# Altium footprint library Lib2408.PcbLib: 18 footprints (part 2 of 2)
Each footprint in its own frame and in the unit in brackets; x right, y up, seen from the top. Pads: shape width x height; smd on the part's side, far side on the other; paste and mask are expansions set on the pad; w line width, h text height; cw(c..) or ccw(c..) is an arc to the next point about the centre after c.
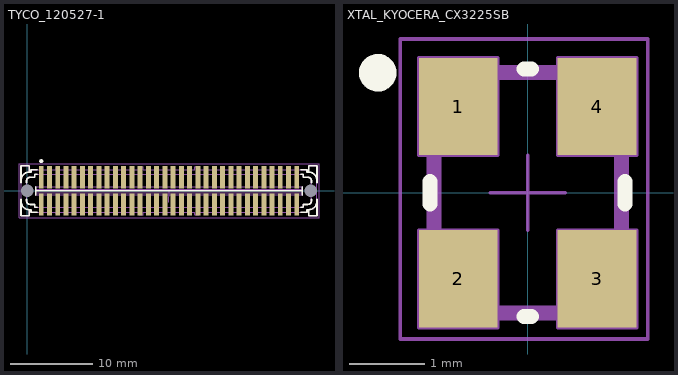
[diagram p1: the footprints below, top view; thin cyan lines are the x and y axes]

## TYCO_120527-1 [mm] "1mm Centerline, FH (IEEE 1386) Surface Mount, Stacking Board-to-Board Male Connectors"
height 8.45
pads (66):
  rect 0.6x2.7 smd: 1(1.7,1.65) 2(1.7,-1.65) 3(2.7,1.65) 4(2.7,-1.65) 5(3.7,1.65) 6(3.7,-1.65) 7(4.7,1.65) 8(4.7,-1.65) 9(5.7,1.65) 10(5.7,-1.65) 11(6.7,1.65) 12(6.7,-1.65) 13(7.7,1.65) 14(7.7,-1.65) 15(8.7,1.65) 16(8.7,-1.65) 17(9.7,1.65) 18(9.7,-1.65) 19(10.7,1.65) 20(10.7,-1.65) 21(11.7,1.65) 22(11.7,-1.65) 23(12.7,1.65) 24(12.7,-1.65) 25(13.7,1.65) 26(13.7,-1.65) 27(14.7,1.65) 28(14.7,-1.65) 29(15.7,1.65) 30(15.7,-1.65) 31(16.7,1.65) 32(16.7,-1.65) 33(17.7,1.65) 34(17.7,-1.65) 35(18.7,1.65) 36(18.7,-1.65) 37(19.7,1.65) 38(19.7,-1.65) 39(20.7,1.65) 40(20.7,-1.65) 41(21.7,1.65) 42(21.7,-1.65) 43(22.7,1.65) 44(22.7,-1.65) 45(23.7,1.65) 46(23.7,-1.65) 47(24.7,1.65) 48(24.7,-1.65) 49(25.7,1.65) 50(25.7,-1.65) 51(26.7,1.65) 52(26.7,-1.65) 53(27.7,1.65) 54(27.7,-1.65) 55(28.7,1.65) 56(28.7,-1.65) 57(29.7,1.65) 58(29.7,-1.65) 59(30.7,1.65) 60(30.7,-1.65) 61(31.7,1.65) 62(31.7,-1.65) 63(32.7,1.65) 64(32.7,-1.65)
  round 1 hole 1.5 unplated: 65(0,0) 66(34.4,0)
Top Overlay:
  circle w0.25: c1.7,3.6 r0.125
  lines w0.2: -0.75,-1.275 ccw(c0.25,-1.275) 0.25,-2.275 ; -0.75,-1 -0.75,-3.025 0.25,-3.025 0.25,-2.275 ; -0.75,1 -0.75,3.025 0.25,3.025 0.25,2.275 ; -0.75,1.275 cw(c0.25,1.275) 0.25,2.275 ; -0.09,-1 -0.09,-1.2 ccw(c0.36,-1.2) 0.36,-1.65 0.9,-1.65 0.9,-2 1.2,-2 ; -0.09,1 -0.09,1.2 cw(c0.36,1.2) 0.36,1.65 0.9,1.65 0.9,2 1.2,2 ; 1.05,-0.5 1.05,0.5 ; 1.05,0 33.35,0 ; 1.2,-2.575 0.45,-2.575 0.45,-2.275 0.25,-2.275 ; 1.2,2.575 0.45,2.575 0.45,2.275 0.25,2.275 ; 33.2,-2.575 33.95,-2.575 33.95,-2.275 34.15,-2.275 ; 33.2,-2 33.5,-2 33.5,-1.65 34.04,-1.65 ccw(c34.04,-1.2) 34.49,-1.2 34.49,-1 ; 33.2,2 33.5,2 33.5,1.65 34.04,1.65 cw(c34.04,1.2) 34.49,1.2 34.49,1 ; 33.2,2.575 33.95,2.575 33.95,2.275 34.15,2.275 ; 33.35,-0.5 33.35,0.5 ; 35.15,-1.275 cw(c34.15,-1.275) 34.15,-2.275 ; 35.15,-1 35.15,-3.025 34.15,-3.025 34.15,-2.275 ; 35.15,1 35.15,3.025 34.15,3.025 34.15,2.275 ; 35.15,1.275 ccw(c34.15,1.275) 34.15,2.275
Mechanical 14:
  drawing of 251 lines, arcs and shapes, not listed
Mechanical 15:
  lines w0.05: -1,-3.275 -1,3.275 35.4,3.275 35.4,-3.275 -1,-3.275
3D body "TYCO-AMP_120527-1.stp": height 8.38, standoff -0.73, extent -0.75,-3.025 35.15,3.025

## XTAL_KYOCERA_CX3225SB [mm] "SMD Crystal Kyocera, 4 Pin, 3.2mm L X 2.5mm W X 0.6mm H"
height 0.6
pads (4):
  rect 1.05x1.3 smd: 1(-0.925,1.15) 2(-0.925,-1.15) 3(0.925,-1.15) 4(0.925,1.15)
Top Overlay:
  circle w0.25: c-2,1.6 r0.125
  lines w0.2: -1.3,-0.15 -1.3,0.15 ; -0.05,-1.65 0.05,-1.65 ; -0.05,1.65 0.05,1.65 ; 1.3,-0.15 1.3,0.15
Mechanical 8:
  lines w0.05: -1.425,-1.15 -0.925,-1.15 ; -1.425,1.15 -0.925,1.15 ; -0.925,-1.65 -0.925,-1.15 ; -0.925,-0.65 -0.925,-1.15 ; -0.925,0.65 -0.925,1.15 ; -0.925,1.65 -0.925,1.15 ; -0.5,0 0,0 ; -0.425,-1.15 -0.925,-1.15 ; -0.425,1.15 -0.925,1.15 ; 0,-0.5 0,0 ; 0,0.5 0,0 ; 0.425,-1.15 0.925,-1.15 ; 0.425,1.15 0.925,1.15 ; 0.5,0 0,0 ; 0.925,-1.65 0.925,-1.15 ; 0.925,-0.65 0.925,-1.15 ; 0.925,0.65 0.925,1.15 ; 0.925,1.65 0.925,1.15 ; 1.425,-1.15 0.925,-1.15 ; 1.425,1.15 0.925,1.15 ; -1.45,-1.8 -0.4,-1.8 -0.4,-0.5 -1.45,-0.5 -1.45,-1.8 ; -1.45,0.5 -1.45,1.8 -0.4,1.8 -0.4,0.5 -1.45,0.5 ; 0.4,-1.8 1.45,-1.8 1.45,-0.5 0.4,-0.5 0.4,-1.8 ; 0.4,0.5 1.45,0.5 1.45,1.8 0.4,1.8 0.4,0.5
Mechanical 14:
  lines w0.1: -1.3,-1.45 cw(c-1.3,-1.65) -1.1,-1.65 1.1,-1.65 cw(c1.3,-1.65) 1.3,-1.45 1.3,1.45 cw(c1.3,1.65) 1.1,1.65 -1.1,1.65 cw(c-1.3,1.65) -1.3,1.45 -1.3,-1.45 ; -1.2,-1.15 ccw(c-0.8,-1.15) -0.8,-1.55 0.8,-1.55 ccw(c0.8,-1.15) 1.2,-1.15 1.2,1.15 ccw(c0.8,1.15) 0.8,1.55 -0.8,1.55 ccw(c-0.8,1.15) -1.2,1.15 -1.2,-1.15
Mechanical 15:
  lines w0.05: -1.7,-1.95 -1.7,2.05 1.6,2.05 1.6,-1.95 -1.7,-1.95
3D body "XTAL_KYOCERA_CX3225SB.stp": height 0.6, standoff 0, extent -1.3,-1.65 1.3,1.65